# Altium schematic symbol library Inductors Chokes.SchLib: 5 symbols
Pins are listed as number, name and electrical type; pins without a type are passive.

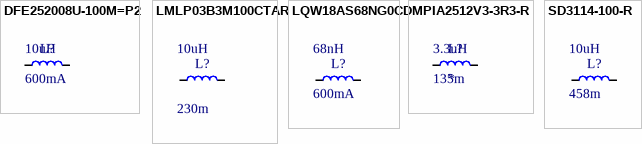
[diagram p0: symbols DFE252008U-100M=P2 to SD3114-100-R]

## DFE252008U-100M=P2
designator L?  Inductance: 10uH  Avg Current: 600mA  (hidden comment: *)
10 µH Shielded Drum Core, Wirewound Inductor 600 mA 880mOhm Max 1008 (2520 Metric) Flat Wire; Resistance: 880m
footprint 1008 (10 by 08 footprint)
pins: 1, 2

## LMLP03B3M100CTAR
designator L?  Resistance: 230m  Inductance: 10uH  (hidden comment: *)
10 µH Shielded Inductor 710 mA 230mOhm Nonstandard; Avg Current: 710mA; Sat Current: 700mA
footprint LMLP Series – Style C (3 mm x 1.5 mm x 3 mm Kyocera AVC Inductor)
pins: 1, 2

## LQW18AS68NG0CD
designator L?  Avg Current: 600mA  Inductance: 68nH  (hidden comment: *)
Resistance: 340m
pins: 1, 2

## MPIA2512V3-3R3-R
designator L?  Resistance: 135m  Inductance: 3.3uH
3.3 µH Shielded Molded Inductor 1.8 A 135mOhm Max 1008 (2520 Metric); Sat Current: 2.8A; Avg Current: 1.8A
footprint 1008 (10 by 08 footprint)
pins: 1, 2

## SD3114-100-R
designator L?  Resistance: 458m  Inductance: 10uH  (hidden comment: *)
10 µH Shielded Drum Core, Wirewound Inductor 570 mA 458mOhm Nonstandard; Avg Current: 570mA; Sat Current: 780mA
footprint SD3114 Series (Footprint for the SD3114 Series of Inductors by Eaton)
pins: 1, 2